# Altium footprint library DIP-T  0607.PCBlib: 108 footprints (part 7 of 7)
Each footprint in its own frame and in the unit in brackets; x right, y up, seen from the top. Pads: shape width x height; smd on the part's side, far side on the other; paste and mask are expansions set on the pad; w line width, h text height; cw(c..) or ccw(c..) is an arc to the next point about the centre after c.
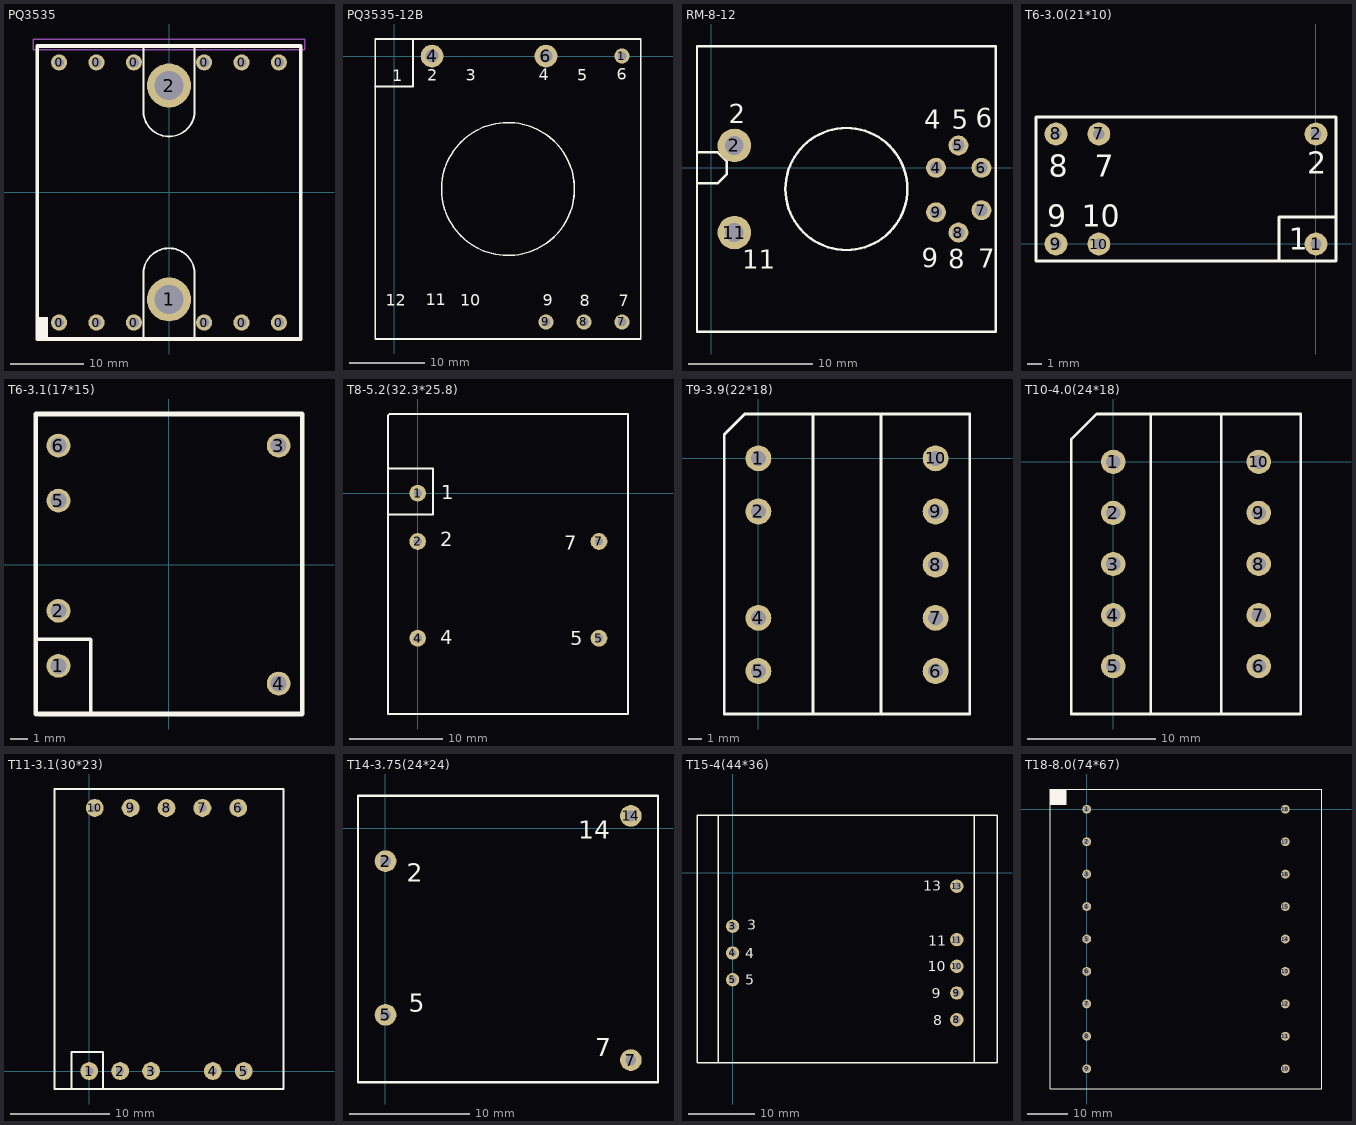
[diagram p6: the footprints below, top view; thin cyan lines are the x and y axes]

## PQ3535 [mm]
height 32
pads (14):
  round 2.2 hole 1.4: 0(-15,-17.75) 0(-15,17.75) 0(-9.9,-17.75) 0(-9.9,17.75) 0(-4.8,-17.75) 0(-4.8,17.75) 0(4.8,-17.75) 0(4.8,17.75) 0(9.9,-17.75) 0(9.9,17.75) 0(15,-17.75) 0(15,17.75)
  round 6 hole 4: 1(0,-14.6) 2(0,14.6)
Top Overlay:
  rectangle: -17.75,-19.75 -16.5,-17
  lines w0.254: -3.5,-20 -3.5,-11 ; -3.5,11 -3.5,20 ; -3.497,-11.007 cw(c0.002,-11.11) 3.5,-11 3.5,-20 ; -3.494,10.993 ccw(c0.003,11.14) 3.5,11 3.5,20
  lines w0.5: -18,-20 -18,20 18,20 18,-20 -18,-20
Mechanical 7:
  lines w0.2: -18.5,19.45 -18.5,20.95 18.5,20.95 18.5,19.45 -18.5,19.45

## PQ3535-12B [mm]
pads (10):
  round 0 on Top Overlay: 1(0.005,0.003) 2(5.005,0.003) 3(10.005,0.003) 5(25.005,0.003)
  round 2 hole 1.2: 1(30.005,0.003) 7(30.005,-34.997) 8(25.005,-34.997) 9(20.005,-34.997)
  round 3 hole 1.7: 4(5.005,0.003) 6(20.005,0.003)
Top Overlay:
  circle w0.2: c15.005,-17.497 r8.75
  lines w0.2: -2.495,-37.247 -2.495,2.253 22.345,2.253 32.505,2.253 32.505,-37.247 22.345,-37.247 -2.495,-37.247
  lines w0.254: -2.495,-3.997 2.502,-3.997 2.502,2.253
  text "7" at 29.58,-32.922 h1.52
  text "8" at 24.43,-32.922 h1.52
  text "9" at 19.58,-32.872 h1.52
  text "10" at 8.705,-32.872 h1.52
  text "11" at 4.155,-32.822 h1.52
  text "12" at -1.07,-32.872 h1.52
  text "6" at 29.355,-3.097 h1.52
  text "4" at 19.055,-3.172 h1.52
  text "3" at 9.43,-3.222 h1.52
  text "2" at 4.405,-3.222 h1.52
  text "1" at -0.22,-3.297 h1.52
  text "5" at 24.155,-3.222 h1.52

## RM-8-12 [mm]
pads (10):
  round 0 on Top Overlay: 1(0.007,-0.003) 3(3.657,-0.003)
  round 2.7 hole 1.5: 2(1.857,1.797) 11(1.857,-5.203)
  round 1.6 hole 1: 4(18.057,-0.003) 5(19.857,1.797) 6(21.707,-0.003) 7(21.707,-3.403) 8(19.857,-5.203) 9(18.057,-3.578)
Top Overlay:
  circle w0.2: c10.857,-1.703 r4.9
  lines w0.2: -1.143,-1.253 0.507,-1.253 1.257,-0.503 1.257,0.497 0.507,1.247 -1.143,1.247 ; 22.857,-13.178 17.332,-13.178 13.482,-13.178 -1.118,-13.178 -1.143,-13.153 -1.143,9.772 22.857,9.772 22.857,5.247 22.857,-13.178 ; 22.857,-13.178 22.857,-13.178
  text "11" at 2.482,-8.128 h1.52
  text "9" at 16.907,-8.003 h1.52
  text "8" at 19.057,-8.078 h1.52
  text "7" at 21.432,-8.028 h1.52
  text "6" at 21.257,3.247 h1.52
  text "5" at 19.307,3.147 h1.52
  text "4" at 17.132,3.147 h1.52
  text "2" at 1.407,3.597 h1.52

## T6-3.0(21*10) [mm]
pads (6):
  round 1.6 hole 0.8: 1(0,-0.009) 2(0,7.691) 7(-15.2,7.691) 8(-18.2,7.691) 9(-18.2,-0.009) 10(-15.2,-0.009)
Top Overlay:
  lines w0.2: -2.6,-1.209 -2.6,1.891 1.4,1.891 ; -19.6,-1.209 1.4,-1.209 1.4,8.891 -19.6,8.891 -19.6,7.591 -19.6,-1.209
  text "1" at -1.9,-0.409 h1.52
  text "2" at -0.6,4.891 h1.52
  text "9" at -18.8,1.191 h1.52
  text "10" at -16.4,1.191 h1.52
  text "7" at -15.5,4.691 h1.52
  text "8" at -18.7,4.691 h1.52

## T6-3.1(17*15) [mm]
pads (6):
  round 1.34 hole 0.9: 1(-6.2,-5.7) 2(-6.2,-2.6) 3(6.2,6.7) 4(6.2,-6.7) 5(-6.2,3.6) 6(-6.2,6.7)
Top Overlay:
  lines w0.2: -7.47,-4.2 -4.4,-4.2 -4.375,-4.225 -4.375,-8.413
  lines w0.254: -7.47,-8.413 -7.47,8.478 7.516,8.478 7.516,-8.413 -7.343,-8.413

## T8-5.2(32.3*25.8) [mm]
pads (5):
  round 1.8 hole 0.9: 1(0,0.009) 2(0,-5.191) 4(0,-15.591) 5(19.5,-15.591) 7(19.5,-5.191)
Top Overlay:
  lines w0.2: -3.175,-2.277 1.651,-2.277 1.651,2.676 -3.175,2.676 ; -3.175,-23.74 -2.921,-23.74 22.606,-23.74 22.606,8.518 -3.048,8.518 -3.175,8.391 -3.175,-23.74
  text "1" at 2.54,-0.626 h1.52
  text "2" at 2.413,-5.706 h1.52
  text "1" at 2.54,-0.626 h1.52
  text "7" at 15.748,-6.087 h1.52
  text "5" at 16.383,-16.374 h1.52
  text "4" at 2.413,-16.247 h1.52

## T9-3.9(22*18) [mm] "2802906400"
height 20
pads (9):
  round 1.9 hole 1.1: 1(0,0) 2(0,-3.9) 4(0,-11.7) 5(0,-15.6) 6(13,-15.6) 7(13,-11.7) 8(13,-7.8) 9(13,-3.9) 10(13,0)
Top Overlay:
  lines w0.2: 4,-18.75 4,3.25 ; 9,-18.75 9,3.25 ; -2.5,-18.75 15.5,-18.75 15.5,3.25 -1,3.25 -2.5,1.75 -2.5,-18.75

## T10-4.0(24*18) [mm] "2802700100"
height 25
pads (10):
  round 1.9 hole 1.1: 1(0,0) 2(0,-4) 3(0,-8) 4(0,-12) 5(0,-16) 6(11.4,-16) 7(11.4,-12) 8(11.4,-8) 9(11.4,-4) 10(11.4,0)
Top Overlay:
  lines w0.2: -1.3,3.75 -3.3,1.75 -3.3,-19.75 14.7,-19.75 14.7,3.75 -1.25,3.75 ; 2.95,-19.75 2.95,3.75 ; 8.45,-19.75 8.45,3.75

## T11-3.1(30*23) [mm]
pads (10):
  round 1.8 hole 0.8: 1(0.003,0.002) 2(3.103,0.002) 3(6.203,0.002) 4(12.403,0.002) 5(15.503,0.002) 6(14.953,26.402) 7(11.353,26.402) 8(7.753,26.402) 9(4.153,26.402) 10(0.553,26.402)
Top Overlay:
  lines w0.2: -1.775,-1.798 -1.775,1.907 1.375,1.907 1.375,-1.798 ; -3.497,-1.798 19.503,-1.798 19.503,28.302 -3.497,28.302 -3.497,-1.798

## T14-3.75(24*24) [mm]
pads (4):
  round 1.8 hole 0.9: 2(0.009,-2.74) 5(0.009,-15.49) 7(20.359,-19.24) 14(20.359,1.01)
Top Overlay:
  lines w0.2: -2.277,-21.072 22.615,-21.072 22.615,2.677 -2.023,2.677 -2.277,2.677 -2.277,2.296 -2.277,1.788 -2.277,-21.072
  text "14" at 16.011,-0.879 h1.52
  text "7" at 17.408,-18.913 h1.52
  text "5" at 1.914,-15.23 h1.52
  text "2" at 1.787,-4.435 h1.52

## T15-4(44*36) [mm]
pads (8):
  round 2 hole 1.1: 3(0.005,-7.997) 4(0.005,-11.997) 5(0.005,-15.997) 8(33.605,-21.997) 9(33.605,-17.997) 10(33.605,-13.997) 11(33.605,-9.997) 13(33.605,-1.997)
Top Overlay:
  lines w0.2: -2.154,-28.445 -2.154,8.639 ; 36.2,-28.445 36.2,8.639 ; -5.329,-28.445 39.629,-28.445 39.629,8.639 33.66,8.639 -5.329,8.639 -5.329,-28.445
  text "4" at 1.91,-12.824 h1.52
  text "10" at 29.215,-14.729 h1.52
  text "3" at 2.164,-8.506 h1.52
  text "5" at 1.91,-16.761 h1.52
  text "8" at 30.104,-22.857 h1.52
  text "9" at 29.85,-18.793 h1.52
  text "11" at 29.342,-10.919 h1.52
  text "13" at 28.605,-2.697 h1.52

## T18-8.0(74*67) [mm] "2801991700"
height 67
pads (18):
  round 2.2 hole 1.4: 1(0,0) 2(0,-8) 3(0,-16) 4(0,-24) 5(0,-32) 6(0,-40) 7(0,-48) 8(0,-56) 9(0,-64) 10(49,-64) 11(49,-56) 12(49,-48) 13(49,-40) 14(49,-32) 15(49,-24) 16(49,-16) 17(49,-8) 18(49,0)
Top Overlay:
  rectangle: -9,1 -5,5
  lines w0.2: -9,-69 -9,5 58,5 58,-69 -9,-69